# Altium schematic symbol library Crystal_Oscillators.SchLib: 2 symbols
Pins are listed as number, name and electrical type; pins without a type are passive.

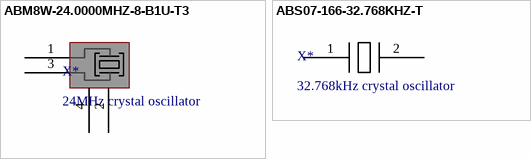
[diagram p0: symbols ABM8W-24.0000MHZ-8-B1U-T3 to ABS07-166-32.768KHZ-T]

## ABM8W-24.0000MHZ-8-B1U-T3
designator X*, comment 24MHz crystal oscillator
Kristaller 24MHz 8pF -20C +70C 20ppm; ComponentLink1Description: Mouser; ComponentLink1URL: https://www.mouser.se/ProductDetail/815-8W24-8B1UT
footprint OSCILLATOR_4PIN (4 pin crystal oscillator)
pins: 1 GND, 2, 3 2, 4

## ABS07-166-32.768KHZ-T
designator X*, comment 32.768kHz crystal oscillator
Kristaller 32.768kHz 10ppm 7pF -40C +85C; ComponentLink1Description: Mouser; ComponentLink1URL: https://www.mouser.se/ProductDetail/815-ABS0716632.768KT
footprint OSCILLATOR_2PIN (2 pin crystal oscillator footprint)
pins: 1, 2